# Altium footprint library Buttons.PcbLib: 2 footprints
Each footprint in its own frame and in the unit in brackets; x right, y up, seen from the top. Pads: shape width x height; smd on the part's side, far side on the other; paste and mask are expansions set on the pad; w line width, h text height; cw(c..) or ccw(c..) is an arc to the next point about the centre after c.
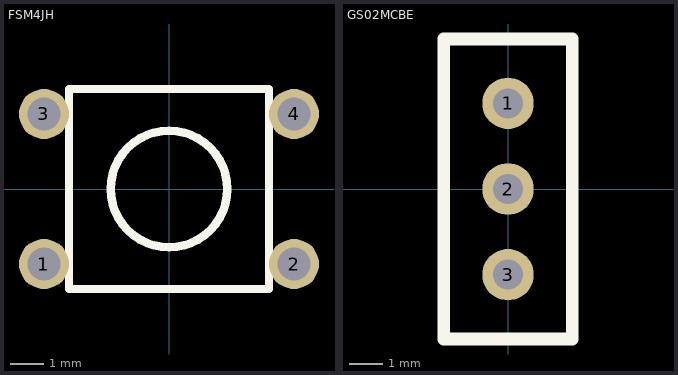
[diagram p0: the footprints below, top view; thin cyan lines are the x and y axes]

## FSM4JH [mm]
height 4.3
pads (4):
  round 1.5 hole 0.99: 1(-3.75,-2.25) 2(3.75,-2.25) 3(-3.75,2.25) 4(3.75,2.25)
Top Overlay:
  circle w0.254: c0,0 r1.75
  lines w0.254: -3,-3 3,-3 3,3 -3,3 -3,-3
3D body: height 5, standoff 0, extent -1.758,-1.758 1.758,1.758
3D body: height 3.61, standoff 0, extent -2.999,-2.999 2.999,2.999
3D body: height 3.55, standoff 0, extent -3.127,-3.127 3.127,3.127

## GS02MCBE [mil]
pads (3):
  round 60 hole 35: 1(0,100) 2(0,0) 3(0,-100)
Top Overlay:
  lines w15: -75,-175 75,-175 75,175 -75,175 -75,-175